# EAGLE library part MILLI-GRID-48 (library con-molex)
Milli-Grid Pin Header 2.00mm (.079") Pitch
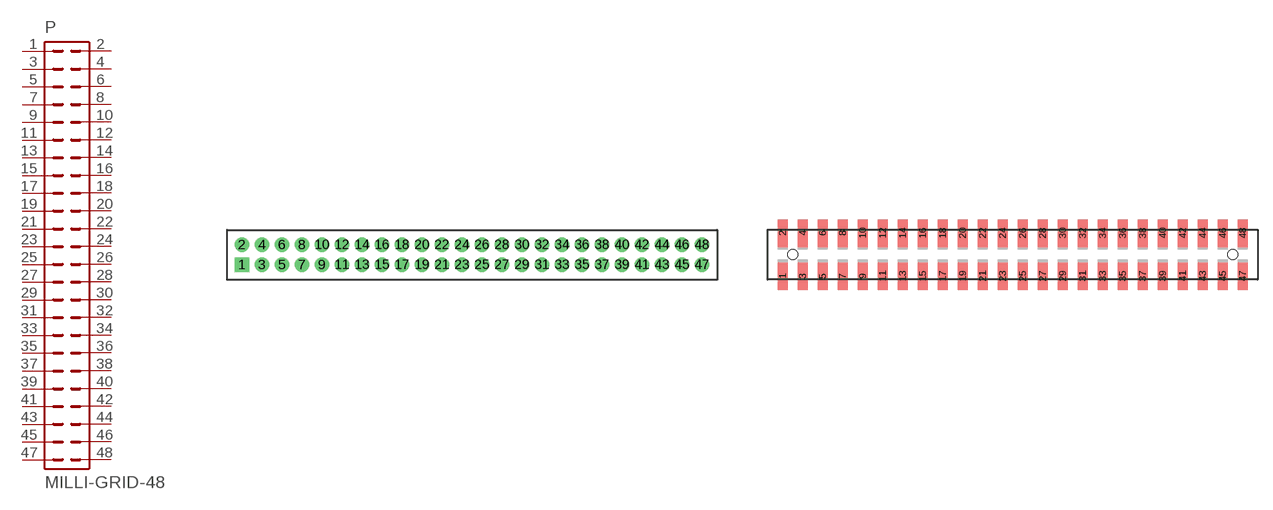
[diagram p72: symbol with the pads of 87758-48; footprints 87758-48, 87759-48]

Designator prefix P

## MILLI-GRID-48-87758  [87758-48]
1  1  pas
2  2  pas
3  3  pas
4  4  pas
5  5  pas
6  6  pas
7  7  pas
8  8  pas
9  9  pas
10  10  pas
11  11  pas
12  12  pas
13  13  pas
14  14  pas
15  15  pas
16  16  pas
17  17  pas
18  18  pas
19  19  pas
20  20  pas
21  21  pas
22  22  pas
23  23  pas
24  24  pas
25  25  pas
26  26  pas
27  27  pas
28  28  pas
29  29  pas
30  30  pas
31  31  pas
32  32  pas
33  33  pas
34  34  pas
35  35  pas
36  36  pas
37  37  pas
38  38  pas
39  39  pas
40  40  pas
41  41  pas
42  42  pas
43  43  pas
44  44  pas
45  45  pas
46  46  pas
47  47  pas
48  48  pas

## MILLI-GRID-48-87759  [87759-48]
Pads as for 87758-48

## MILLI-GRID-48-87264  [87264-48]
Pads as for 87758-48

## MILLI-GRID-48-87368  [87368-48]
Pads as for 87758-48

## Footprint 87758-48 (pad centres in mm)
PCB Pin Headers 2.00mm (.079") Pitch Milli-Grid Header, Vertical
drill 0.914 square: 1 -23,-1
drill 0.914: 2 -23,1; 3 -21,-1; 4 -21,1; 5 -19,-1; 6 -19,1; 7 -17,-1; 8 -17,1; 9 -15,-1; 10 -15,1; 11 -13,-1; 12 -13,1; 13 -11,-1; 14 -11,1; 15 -9,-1; 16 -9,1; 17 -7,-1; 18 -7,1; 19 -5,-1; 20 -5,1; 21 -3,-1; 22 -3,1; 23 -1,-1; 24 -1,1; 25 1,-1; 26 1,1; 27 3,-1; 28 3,1; 29 5,-1; 30 5,1; 31 7,-1; 32 7,1; 33 9,-1; 34 9,1; 35 11,-1; 36 11,1; 37 13,-1; 38 13,1; 39 15,-1; 40 15,1; 41 17,-1; 42 17,1; 43 19,-1; 44 19,1; 45 21,-1; 46 21,1; 47 23,-1; 48 23,1

## Footprint 87759-48 (pad centres in mm)
PCB Pin Headers 2.00mm (.079") Pitch Milli-Grid Header, Vertical SMD
smd 1 x 2.75: 1 -23,-2.15; 2 -23,2.15; 3 -21,-2.15; 4 -21,2.15; 5 -19,-2.15; 6 -19,2.15; 7 -17,-2.15; 8 -17,2.15; 9 -15,-2.15; 10 -15,2.15; 11 -13,-2.15; 12 -13,2.15; 13 -11,-2.15; 14 -11,2.15; 15 -9,-2.15; 16 -9,2.15; 17 -7,-2.15; 18 -7,2.15; 19 -5,-2.15; 20 -5,2.15; 21 -3,-2.15; 22 -3,2.15; 23 -1,-2.15; 24 -1,2.15; 25 1,-2.15; 26 1,2.15; 27 3,-2.15; 28 3,2.15; 29 5,-2.15; 30 5,2.15; 31 7,-2.15; 32 7,2.15; 33 9,-2.15; 34 9,2.15; 35 11,-2.15; 36 11,2.15; 37 13,-2.15; 38 13,2.15; 39 15,-2.15; 40 15,2.15; 41 17,-2.15; 42 17,2.15; 43 19,-2.15; 44 19,2.15; 45 21,-2.15; 46 21,2.15; 47 23,-2.15; 48 23,2.15
hole 1 at -22,0
hole 1 at 22,0

## Footprint 87264-48 (pad centres in mm)
Board-To-Board Receptacal 2.00mm (.079") Pitch Milli-Grid Header, Side Entry Mates with 2mm(.079") Mill-Grid Header
drill 0.914 square: 1 -23,-2.25
drill 0.914: 2 -23,2.25; 3 -21,-2.25; 4 -21,2.25; 5 -19,-2.25; 6 -19,2.25; 7 -17,-2.25; 8 -17,2.25; 9 -15,-2.25; 10 -15,2.25; 11 -13,-2.25; 12 -13,2.25; 13 -11,-2.25; 14 -11,2.25; 15 -9,-2.25; 16 -9,2.25; 17 -7,-2.25; 18 -7,2.25; 19 -5,-2.25; 20 -5,2.25; 21 -3,-2.25; 22 -3,2.25; 23 -1,-2.25; 24 -1,2.25; 25 1,-2.25; 26 1,2.25; 27 3,-2.25; 28 3,2.25; 29 5,-2.25; 30 5,2.25; 31 7,-2.25; 32 7,2.25; 33 9,-2.25; 34 9,2.25; 35 11,-2.25; 36 11,2.25; 37 13,-2.25; 38 13,2.25; 39 15,-2.25; 40 15,2.25; 41 17,-2.25; 42 17,2.25; 43 19,-2.25; 44 19,2.25; 45 21,-2.25; 46 21,2.25; 47 23,-2.25; 48 23,2.25

## Footprint 87368-48 (pad centres in mm)
Board-To-Board Receptacal 2.00mm (.079") Pitch Milli-Grid Header, Side Entry SMD Mates with 2mm(.079") Mill-Grid Header
smd 1 x 2.8: 1 -23,-3.1; 2 -23,3.1; 3 -21,-3.1; 4 -21,3.1; 5 -19,-3.1; 6 -19,3.1; 7 -17,-3.1; 8 -17,3.1; 9 -15,-3.1; 10 -15,3.1; 11 -13,-3.1; 12 -13,3.1; 13 -11,-3.1; 14 -11,3.1; 15 -9,-3.1; 16 -9,3.1; 17 -7,-3.1; 18 -7,3.1; 19 -5,-3.1; 20 -5,3.1; 21 -3,-3.1; 22 -3,3.1; 23 -1,-3.1; 24 -1,3.1; 25 1,-3.1; 26 1,3.1; 27 3,-3.1; 28 3,3.1; 29 5,-3.1; 30 5,3.1; 31 7,-3.1; 32 7,3.1; 33 9,-3.1; 34 9,3.1; 35 11,-3.1; 36 11,3.1; 37 13,-3.1; 38 13,3.1; 39 15,-3.1; 40 15,3.1; 41 17,-3.1; 42 17,3.1; 43 19,-3.1; 44 19,3.1; 45 21,-3.1; 46 21,3.1; 47 23,-3.1; 48 23,3.1
hole 0.914 at -23,0
hole 0.914 at 0,0